# EAGLE library part DS2786G+ (library DS278x)
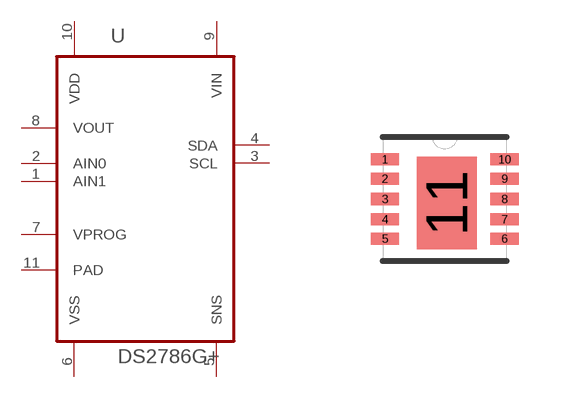
[diagram p0: symbol with the pads of DFN300X300X80-11N; footprint DFN300X300X80-11N]

Designator prefix U

## DS2786G+ (DESCRIPTION: Stand-Alone OCV-Based Fuel Gauge; MPN: DS2786; PACKAGE: DFN-10; SUPPLIER: Maxim)  [DFN300X300X80-11N]
1  AIN1  in
2  AIN0  in
3  SCL  in
4  SDA  out
5  SNS  in
6  VSS  pas
7  VPROG  pwr
8  VOUT  out
9  VIN  in
10  VDD  pwr
11  PAD  pas

## Footprint DFN300X300X80-11N (pad centres in mm)
smd 0.711 x 0.305: 1 -1.499,0.991; 2 -1.499,0.508; 3 -1.499,0; 4 -1.499,-0.508; 5 -1.499,-0.991; 6 1.499,-0.991; 7 1.499,-0.508; 8 1.499,0; 9 1.499,0.508; 10 1.499,0.991
smd 1.499 x 2.311: 11 0.051,-0.102